# Altium footprint library MTA_connectors.PcbLib: 7 footprints
Each footprint in its own frame and in the unit in brackets; x right, y up, seen from the top. Pads: shape width x height; smd on the part's side, far side on the other; paste and mask are expansions set on the pad; w line width, h text height; cw(c..) or ccw(c..) is an arc to the next point about the centre after c.
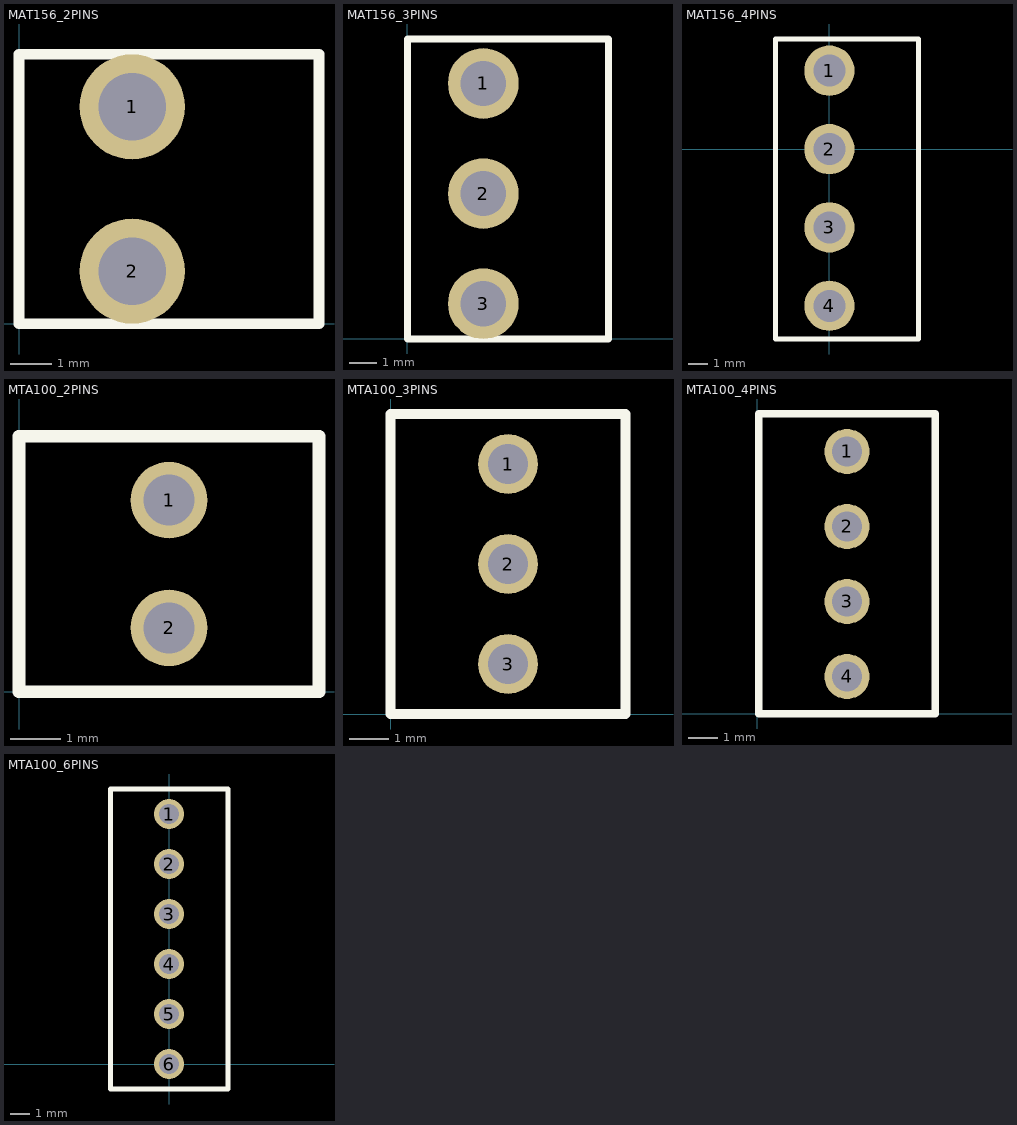
[diagram p0: the footprints below, top view; thin cyan lines are the x and y axes]

## MAT156_2PINS [mil]
pads (2):
  round 100 hole 64: 1(107.5,206) 2(107.5,50)
Top Overlay:
  lines w10: 0,0 0,256 285,256 285,0 0,0

## MAT156_3PINS [mil]
pads (3):
  round 100 hole 64: 1(107.5,362) 2(107.5,206) 3(107.5,50)
Top Overlay:
  lines w10: 0,0 285,0 285,425 0,425 0,0

## MAT156_4PINS [mil]
pads (4):
  round 100 hole 64: 1(0,156) 2(0,0) 3(0,-156) 4(0,-312)
Top Overlay:
  lines w10: -107.5,-378 -107.5,219 177.5,219 177.5,-378 -107.5,-378

## MTA100_2PINS [mil]
pads (2):
  round 60 hole 40: 1(117.5,150) 2(117.5,50)
Top Overlay:
  lines w10: 0,0 235,0 235,200 0,200 0,0

## MTA100_3PINS [mil]
pads (3):
  round 60 hole 40: 1(117.5,250) 2(117.5,150) 3(117.5,50)
Top Overlay:
  lines w10: 0,0 0,300 235,300 235,0 0,0

## MTA100_4PINS [mil]
pads (4):
  round 60 hole 40: 1(120,350) 2(120,250) 3(120,150) 4(120,50)
Top Overlay:
  lines w10: 2.5,0 2.5,400 237.5,400 237.5,0 2.5,0

## MTA100_6PINS [mil]
pads (6):
  round 60 hole 40: 1(0,500) 2(0,400) 3(0,300) 4(0,200) 5(0,100) 6(0,0)
Top Overlay:
  lines w10: -117.5,-50 -117.5,550 117.5,550 117.5,-50 -117.5,-50